# Altium footprint library 7499211125.PcbLib: 1 footprints
Each footprint in its own frame and in the unit in brackets; x right, y up, seen from the top. Pads: shape width x height; smd on the part's side, far side on the other; paste and mask are expansions set on the pad; w line width, h text height; cw(c..) or ccw(c..) is an arc to the next point about the centre after c.
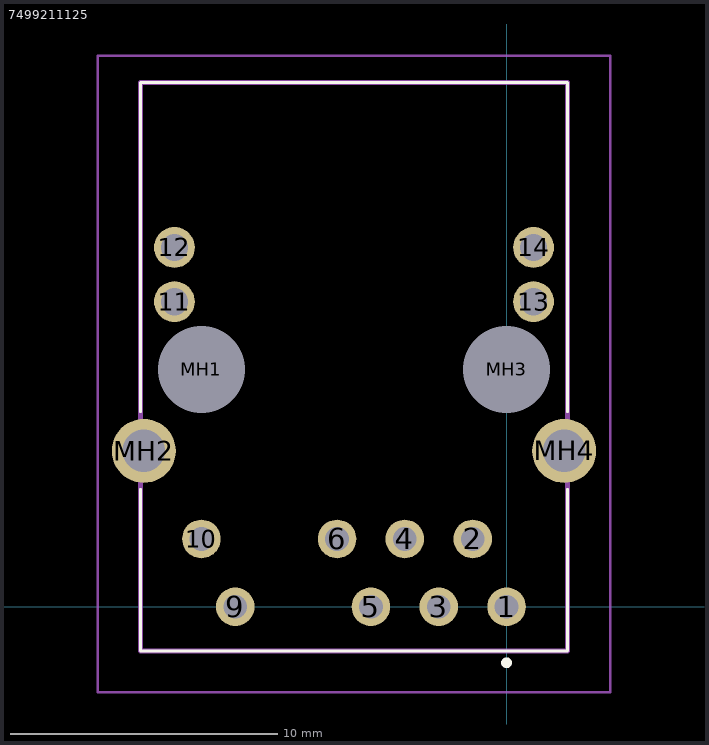
[diagram p0: the footprint, top view; thin cyan lines are the x and y axes]

## 7499211125 [mm]
pads (16):
  round 1.446 hole 0.89: 1(0,0) 2(-1.27,2.54) 3(-2.54,0) 4(-3.81,2.54) 5(-5.08,0) 6(-6.35,2.54) 9(-10.16,0) 10(-11.43,2.54)
  round 1.53 hole 1.02: 11(-12.44,11.43) 12(-12.44,13.46) 13(1.01,11.43) 14(1.01,13.46)
  round 1.625 hole 3.25 unplated: MH1(-11.43,8.89) MH3(0,8.89)
  round 2.4 hole 1.6: MH2(-13.59,5.84) MH4(2.16,5.84)
Top Overlay:
  lines w0.1: -13.715,4.4 -13.715,-1.66 2.16,-1.66 2.285,-1.66 2.285,4.4 ; -13.715,7.3 -13.715,19.64 2.285,19.64 2.285,7.3
  lines w0.2: -0.1,-2.1 -0.1,-2.1 ; -0.1,-2.1 ccw(c0,-2.1) 0.1,-2.1 ; -0.1,-2.1 cw(c0,-2.1) 0.1,-2.1 ; 0.1,-2.1 0.1,-2.1
Mechanical 15:
  lines w0.2: -13.715,-1.66 2.285,-1.66 2.285,19.64 -13.715,19.64 -13.715,-1.66
Mechanical 20:
  lines w0.1: -15.313,-3.2 3.883,-3.2 3.883,20.64 -15.313,20.64 -15.313,-3.2